# Altium schematic symbol library MCU.SchLib: 4 symbols
Pins are listed as number, name and electrical type; pins without a type are passive.

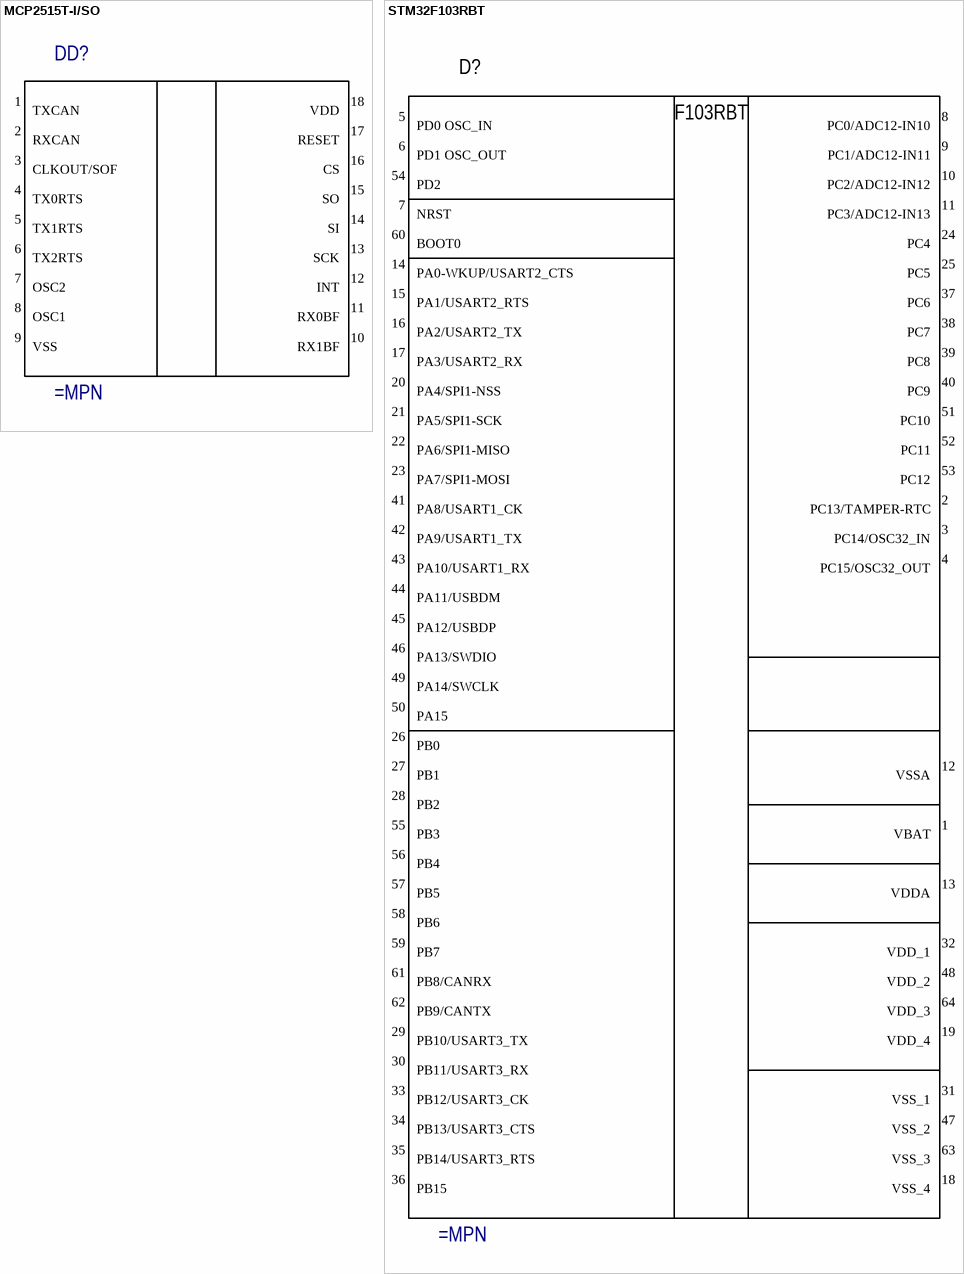
[diagram p0: symbols MCP2515T-I/SO to STM32F103RBT]

## MCP2515T-I/SO
designator DD?
pins: 1 TXCAN, 2 RXCAN, 3 CLKOUT/SOF, 4 TX0RTS, 5 TX1RTS, 6 TX2RTS, 7 OSC2, 8 OSC1, 9 VSS, 10 RX1BF, 11 RX0BF, 12 INT, 13 SCK, 14 SI, 15 SO, 16 CS, 17 RESET, 18 VDD

## STM32F103RBT
designator D?
pins: 1 VBAT, 2 PC13/TAMPER-RTC, 3 PC14/OSC32_IN, 4 PC15/OSC32_OUT, 5 PD0 OSC_IN, 6 PD1 OSC_OUT, 7 NRST, 8 PC0/ADC12-IN10, 9 PC1/ADC12-IN11, 10 PC2/ADC12-IN12, 11 PC3/ADC12-IN13, 12 VSSA, 13 VDDA, 14 PA0-WKUP/USART2_CTS, 15 PA1/USART2_RTS, 16 PA2/USART2_TX, 17 PA3/USART2_RX, 18 VSS_4, 19 VDD_4, 20 PA4/SPI1-NSS, 21 PA5/SPI1-SCK, 22 PA6/SPI1-MISO, 23 PA7/SPI1-MOSI, 24 PC4, 25 PC5, 26 PB0, 27 PB1, 28 PB2, 29 PB10/USART3_TX, 30 PB11/USART3_RX, 31 VSS_1, 32 VDD_1, 33 PB12/USART3_CK, 34 PB13/USART3_CTS, 35 PB14/USART3_RTS, 36 PB15, 37 PC6, 38 PC7, 39 PC8, 40 PC9, 41 PA8/USART1_CK, 42 PA9/USART1_TX, 43 PA10/USART1_RX, 44 PA11/USBDM, 45 PA12/USBDP, 46 PA13/SWDIO, 47 VSS_2, 48 VDD_2, 49 PA14/SWCLK, 50 PA15, 51 PC10, 52 PC11, 53 PC12, 54 PD2, 55 PB3, 56 PB4, 57 PB5, 58 PB6, 59 PB7, 60 BOOT0, 61 PB8/CANRX, 62 PB9/CANTX, 63 VSS_3, 64 VDD_3
text: F103RBT

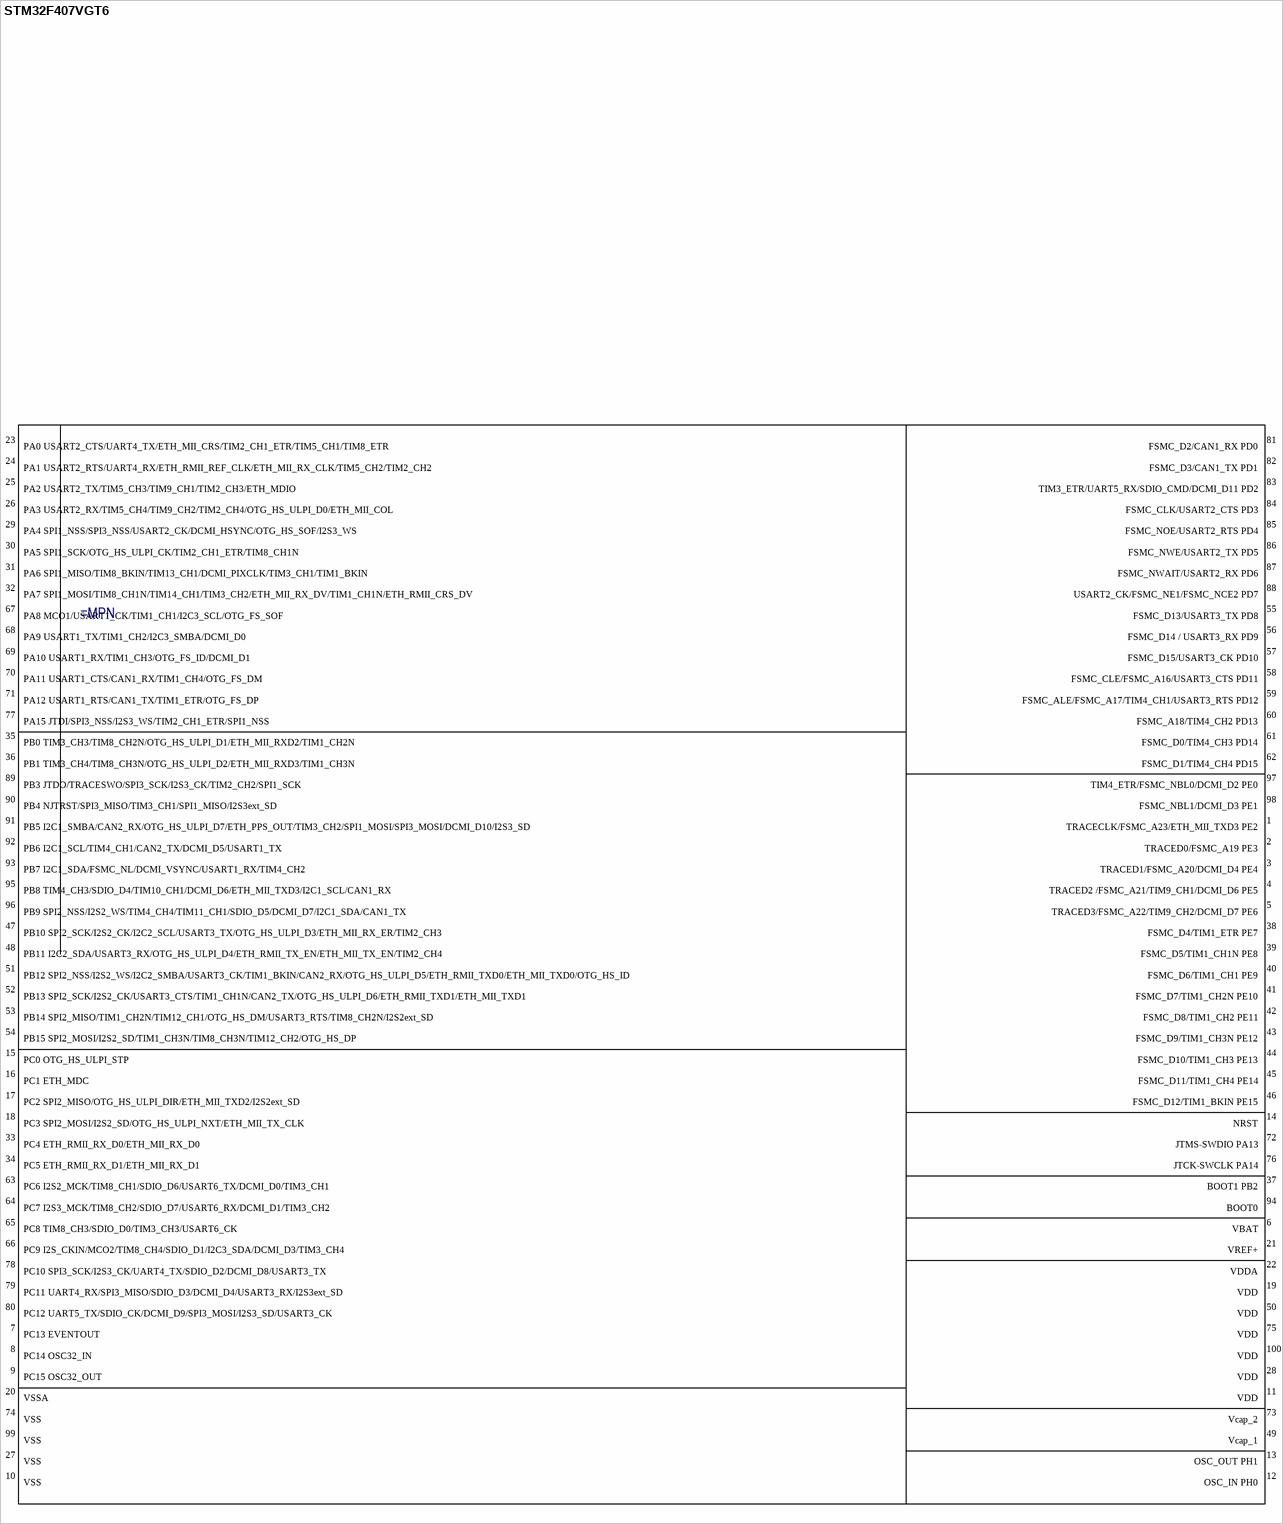
[diagram p1: symbol STM32F407VGT6]

## STM32F407VGT6
designator ?
ComponentLink1Description: Документация; ComponentLink1Url: C:\DATASHEET\Microcontroller\STM32F407VGT6.pdf
pins: 1 TRACECLK/FSMC_A23/ETH_MII_TXD3 PE2 "TRACECLK/ FSMC_A23 / ETH_MII_TXD3 / EVENTOUT", 2 TRACED0/FSMC_A19 PE3 "TRACED0/FSMC_A19/EVENTOUT", 3 TRACED1/FSMC_A20/DCMI_D4 PE4 "TRACED1/FSMC_A20 /  DCMI_D4/ EVENTOUT", 4 TRACED2 /FSMC_A21/TIM9_CH1/DCMI_D6 PE5 "TRACED2 / FSMC_A21 /  TIM9_CH1 / DCMI_D6 / EVENTOUT", 5 TRACED3/FSMC_A22/TIM9_CH2/DCMI_D7 PE6 "TRACED3 / FSMC_A22 /  TIM9_CH2 / DCMI_D7 / EVENTOUT", 6 VBAT, 7 PC13 EVENTOUT "EVENTOUT", 8 PC14 OSC32_IN "OSC32_IN", 9 PC15 OSC32_OUT "OSC32_OUT", 10 VSS, 11 VDD, 12 OSC_IN PH0 "OSC_IN", 13 OSC_OUT PH1 "OSC_OUT", 14 NRST, 15 PC0 OTG_HS_ULPI_STP "PC0 ADC12_IN10", 16 PC1 ETH_MDC "ETH_MDC", 17 PC2 SPI2_MISO/OTG_HS_ULPI_DIR/ETH_MII_TXD2/I2S2ext_SD "SPI2_MISO/OTG_HS_ULPI_DIR/ETH_MII_TXD2/I2S2ext_SD", 18 PC3 SPI2_MOSI/I2S2_SD/OTG_HS_ULPI_NXT/ETH_MII_TX_CLK "SPI2_MOSI / I2S2_SD /  OTG_HS_ULPI_NXT /  ETH_MII_TX_CLK", 19 VDD, 20 VSSA, 21 VREF+, 22 VDDA, 23 PA0 USART2_CTS/UART4_TX/ETH_MII_CRS/TIM2_CH1_ETR/TIM5_CH1/TIM8_ETR "USART2_CTS/  UART4_TX/  ETH_MII_CRS /  TIM2_CH1_ETR/  TIM5_CH1 / TIM8_ETR", 24 PA1 USART2_RTS/UART4_RX/ETH_RMII_REF_CLK/ETH_MII_RX_CLK/TIM5_CH2/TIM2_CH2 "USART2_RTS/UART4_RX/ETH_RMII_REF_CLK/ETH_MII_RX_CLK/TIM5_CH2/TIM2_CH2", 25 PA2 USART2_TX/TIM5_CH3/TIM9_CH1/TIM2_CH3/ETH_MDIO "USART2_TX/TIM5_CH3/TIM9_CH1/TIM2_CH3/ETH_MDIO", 26 PA3 USART2_RX/TIM5_CH4/TIM9_CH2/TIM2_CH4/OTG_HS_ULPI_D0/ETH_MII_COL "USART2_RX/TIM5_CH4/TIM9_CH2/TIM2_CH4/OTG_HS_ULPI_D0/ETH_MII_COL", 27 VSS, 28 VDD, 29 PA4 SPI1_NSS/SPI3_NSS/USART2_CK/DCMI_HSYNC/OTG_HS_SOF/I2S3_WS "SPI1_NSS/SPI3_NSS/USART2_CK/DCMI_HSYNC/OTG_HS_SOF/I2S3_WS", 30 PA5 SPI1_SCK/OTG_HS_ULPI_CK/TIM2_CH1_ETR/TIM8_CH1N "SPI1_SCK/OTG_HS_ULPI_CK/TIM2_CH1_ETR/TIM8_CH1N", 31 PA6 SPI1_MISO/TIM8_BKIN/TIM13_CH1/DCMI_PIXCLK/TIM3_CH1/TIM1_BKIN "SPI1_MISO/TIM8_BKIN/TIM13_CH1/DCMI_PIXCLK/TIM3_CH1/TIM1_BKIN", 32 PA7 SPI1_MOSI/TIM8_CH1N/TIM14_CH1/TIM3_CH2/ETH_MII_RX_DV/TIM1_CH1N/ETH_RMII_CRS_DV "SPI1_MOSI/TIM8_CH1N/TIM14_CH1/TIM3_CH2/ETH_MII_RX_DV/TIM1_CH1N/ETH_RMII_CRS_DV", 33 PC4 ETH_RMII_RX_D0/ETH_MII_RX_D0 "ETH_RMII_RX_D0/ETH_MII_RX_D0", 34 PC5 ETH_RMII_RX_D1/ETH_MII_RX_D1 "ETH_RMII_RX_D1/ETH_MII_RX_D1", 35 PB0 TIM3_CH3/TIM8_CH2N/OTG_HS_ULPI_D1/ETH_MII_RXD2/TIM1_CH2N "TIM3_CH3/TIM8_CH2N/OTG_HS_ULPI_D1/ETH_MII_RXD2/TIM1_CH2N", 36 PB1 TIM3_CH4/TIM8_CH3N/OTG_HS_ULPI_D2/ETH_MII_RXD3/TIM1_CH3N "TIM3_CH4/TIM8_CH3N/OTG_HS_ULPI_D2/ETH_MII_RXD3/TIM1_CH3N", 37 BOOT1 PB2 "PB2 BOOT1", 38 FSMC_D4/TIM1_ETR PE7 "FSMC_D4/TIM1_ETR", 39 FSMC_D5/TIM1_CH1N PE8 "FSMC_D5/TIM1_CH1N", 40 FSMC_D6/TIM1_CH1 PE9 "FSMC_D6/TIM1_CH1", 41 FSMC_D7/TIM1_CH2N PE10 "FSMC_D7/TIM1_CH2N", 42 FSMC_D8/TIM1_CH2 PE11 "FSMC_D8/TIM1_CH2", 43 FSMC_D9/TIM1_CH3N PE12 "FSMC_D9/TIM1_CH3N", 44 FSMC_D10/TIM1_CH3 PE13 "FSMC_D10/TIM1_CH3", 45 FSMC_D11/TIM1_CH4 PE14 "FSMC_D11/TIM1_CH4", 46 FSMC_D12/TIM1_BKIN PE15 "FSMC_D12/TIM1_BKIN", 47 PB10 SPI2_SCK/I2S2_CK/I2C2_SCL/USART3_TX/OTG_HS_ULPI_D3/ETH_MII_RX_ER/TIM2_CH3 "SPI2_SCK/I2S2_CK/I2C2_SCL/USART3_TX/OTG_HS_ULPI_D3/ETH_MII_RX_ER/TIM2_CH3", 48 PB11 I2C2_SDA/USART3_RX/OTG_HS_ULPI_D4/ETH_RMII_TX_EN/ETH_MII_TX_EN/TIM2_CH4 "I2C2_SDA/USART3_RX/OTG_HS_ULPI_D4/ETH_RMII_TX_EN/ETH_MII_TX_EN/TIM2_CH4", 49 Vcap_1, 50 VDD, 51 PB12 SPI2_NSS/I2S2_WS/I2C2_SMBA/USART3_CK/TIM1_BKIN/CAN2_RX/OTG_HS_ULPI_D5/ETH_RMII_TXD0/ETH_MII_TXD0/OTG_HS_ID "SPI2_NSS/I2S2_WS/I2C2_SMBA/USART3_CK/TIM1_BKIN/CAN2_RX/OTG_HS_ULPI_D5/ETH_RMII_TXD0/ETH_MII_TXD0/OTG_HS_ID", 52 PB13 SPI2_SCK/I2S2_CK/USART3_CTS/TIM1_CH1N/CAN2_TX/OTG_HS_ULPI_D6/ETH_RMII_TXD1/ETH_MII_TXD1 "SPI2_SCK/I2S2_CK/USART3_CTS/TIM1_CH1N/CAN2_TX/OTG_HS_ULPI_D6/ETH_RMII_TXD1/ETH_MII_TXD1", 53 PB14 SPI2_MISO/TIM1_CH2N/TIM12_CH1/OTG_HS_DM/USART3_RTS/TIM8_CH2N/I2S2ext_SD "SPI2_MISO/TIM1_CH2N/TIM12_CH1/OTG_HS_DM/USART3_RTS/TIM8_CH2N/I2S2ext_SD", 54 PB15 SPI2_MOSI/I2S2_SD/TIM1_CH3N/TIM8_CH3N/TIM12_CH2/OTG_HS_DP "SPI2_MOSI/I2S2_SD/TIM1_CH3N/TIM8_CH3N/TIM12_CH2/OTG_HS_DP", 55 FSMC_D13/USART3_TX PD8 "FSMC_D13/USART3_TX", 56 FSMC_D14 / USART3_RX PD9 "FSMC_D14/USART3_RX", 57 FSMC_D15/USART3_CK PD10 "FSMC_D15/USART3_CK", 58 FSMC_CLE/FSMC_A16/USART3_CTS PD11 "FSMC_CLE/FSMC_A16/USART3_CTS", 59 FSMC_ALE/FSMC_A17/TIM4_CH1/USART3_RTS PD12 "FSMC_ALE/FSMC_A17/TIM4_CH1/USART3_RTS", 60 FSMC_A18/TIM4_CH2 PD13 "FSMC_A18/TIM4_CH2", 61 FSMC_D0/TIM4_CH3 PD14 "FSMC_D0/TIM4_CH3", 62 FSMC_D1/TIM4_CH4 PD15 "FSMC_D1/TIM4_CH4", 63 PC6 I2S2_MCK/TIM8_CH1/SDIO_D6/USART6_TX/DCMI_D0/TIM3_CH1 "I2S2_MCK/TIM8_CH1/SDIO_D6/USART6_TX/DCMI_D0/TIM3_CH1", 64 PC7 I2S3_MCK/TIM8_CH2/SDIO_D7/USART6_RX/DCMI_D1/TIM3_CH2 "I2S3_MCK/TIM8_CH2/SDIO_D7/USART6_RX/DCMI_D1/TIM3_CH2", 65 PC8 TIM8_CH3/SDIO_D0/TIM3_CH3/USART6_CK "TIM8_CH3/SDIO_D0/TIM3_CH3/USART6_CK", 66 PC9 I2S_CKIN/MCO2/TIM8_CH4/SDIO_D1/I2C3_SDA/DCMI_D3/TIM3_CH4 "I2S_CKIN/MCO2/TIM8_CH4/SDIO_D1/I2C3_SDA/DCMI_D3/TIM3_CH4", 67 PA8 MCO1/USART1_CK/TIM1_CH1/I2C3_SCL/OTG_FS_SOF "MCO1/USART1_CK/TIM1_CH1/I2C3_SCL/OTG_FS_SOF", 68 PA9 USART1_TX/TIM1_CH2/I2C3_SMBA/DCMI_D0 "USART1_TX/TIM1_CH2/I2C3_SMBA/DCMI_D0", 69 PA10 USART1_RX/TIM1_CH3/OTG_FS_ID/DCMI_D1 "USART1_RX/TIM1_CH3/OTG_FS_ID/DCMI_D1", 70 PA11 USART1_CTS/CAN1_RX/TIM1_CH4/OTG_FS_DM "USART1_CTS/CAN1_RX/TIM1_CH4/OTG_FS_DM", 71 PA12 USART1_RTS/CAN1_TX/TIM1_ETR/OTG_FS_DP "USART1_RTS/CAN1_TX/TIM1_ETR/OTG_FS_DP", 72 JTMS-SWDIO PA13 "JTMS-SWDIO", 73 Vcap_2, 74 VSS, 75 VDD, 76 JTCK-SWCLK PA14 "JTCK-SWCLK", 77 PA15 JTDI/SPI3_NSS/I2S3_WS/TIM2_CH1_ETR/SPI1_NSS "JTDI/SPI3_NSS/I2S3_WS/TIM2_CH1_ETR/SPI1_NSS", 78 PC10 SPI3_SCK/I2S3_CK/UART4_TX/SDIO_D2/DCMI_D8/USART3_TX "SPI3_SCK/I2S3_CK/UART4_TX/SDIO_D2/DCMI_D8/USART3_TX", 79 PC11 UART4_RX/SPI3_MISO/SDIO_D3/DCMI_D4/USART3_RX/I2S3ext_SD "UART4_RX/SPI3_MISO/SDIO_D3/DCMI_D4/USART3_RX/I2S3ext_SD", 80 PC12 UART5_TX/SDIO_CK/DCMI_D9/SPI3_MOSI/I2S3_SD/USART3_CK "UART5_TX/SDIO_CK/DCMI_D9/SPI3_MOSI/I2S3_SD/USART3_CK", 81 FSMC_D2/CAN1_RX PD0 "FSMC_D2/CAN1_RX", 82 FSMC_D3/CAN1_TX PD1 "FSMC_D3/CAN1_TX", 83 TIM3_ETR/UART5_RX/SDIO_CMD/DCMI_D11 PD2 "TIM3_ETR/UART5_RX/SDIO_CMD/DCMI_D11", 84 FSMC_CLK/USART2_CTS PD3 "FSMC_CLK/USART2_CTS", 85 FSMC_NOE/USART2_RTS PD4 "FSMC_NOE/USART2_RTS", 86 FSMC_NWE/USART2_TX PD5 "FSMC_NWE/USART2_TX", 87 FSMC_NWAIT/USART2_RX PD6 "FSMC_NWAIT/USART2_RX", 88 USART2_CK/FSMC_NE1/FSMC_NCE2 PD7 "USART2_CK/FSMC_NE1/FSMC_NCE2", 89 PB3 JTDO/TRACESWO/SPI3_SCK/I2S3_CK/TIM2_CH2/SPI1_SCK "JTDO/TRACESWO/SPI3_SCK/I2S3_CK/TIM2_CH2/SPI1_SCK", 90 PB4 NJTRST/SPI3_MISO/TIM3_CH1/SPI1_MISO/I2S3ext_SD "NJTRST/SPI3_MISO/TIM3_CH1/SPI1_MISO/I2S3ext_SD", 91 PB5 I2C1_SMBA/CAN2_RX/OTG_HS_ULPI_D7/ETH_PPS_OUT/TIM3_CH2/SPI1_MOSI/SPI3_MOSI/DCMI_D10/I2S3_SD "I2C1_SMBA/CAN2_RX/OTG_HS_ULPI_D7/ETH_PPS_OUT/TIM3_CH2/SPI1_MOSI/SPI3_MOSI/DCMI_D10/I2S3_SD", 92 PB6 I2C1_SCL/TIM4_CH1/CAN2_TX/DCMI_D5/USART1_TX "I2C1_SCL/TIM4_CH1/CAN2_TX/DCMI_D5/USART1_TX", 93 PB7 I2C1_SDA/FSMC_NL/DCMI_VSYNC/USART1_RX/TIM4_CH2 "I2C1_SDA/FSMC_NL/DCMI_VSYNC/USART1_RX/TIM4_CH2", 94 BOOT0, 95 PB8 TIM4_CH3/SDIO_D4/TIM10_CH1/DCMI_D6/ETH_MII_TXD3/I2C1_SCL/CAN1_RX "TIM4_CH3/SDIO_D4/TIM10_CH1/DCMI_D6/ETH_MII_TXD3/I2C1_SCL/CAN1_RX", 96 PB9 SPI2_NSS/I2S2_WS/TIM4_CH4/TIM11_CH1/SDIO_D5/DCMI_D7/I2C1_SDA/CAN1_TX "SPI2_NSS/I2S2_WS/TIM4_CH4/TIM11_CH1/SDIO_D5/DCMI_D7/I2C1_SDA/CAN1_TX", 97 TIM4_ETR/FSMC_NBL0/DCMI_D2 PE0 "TIM4_ETR/FSMC_NBL0/DCMI_D2", 98 FSMC_NBL1/DCMI_D3 PE1 "FSMC_NBL1/DCMI_D3", 99 VSS, 100 VDD

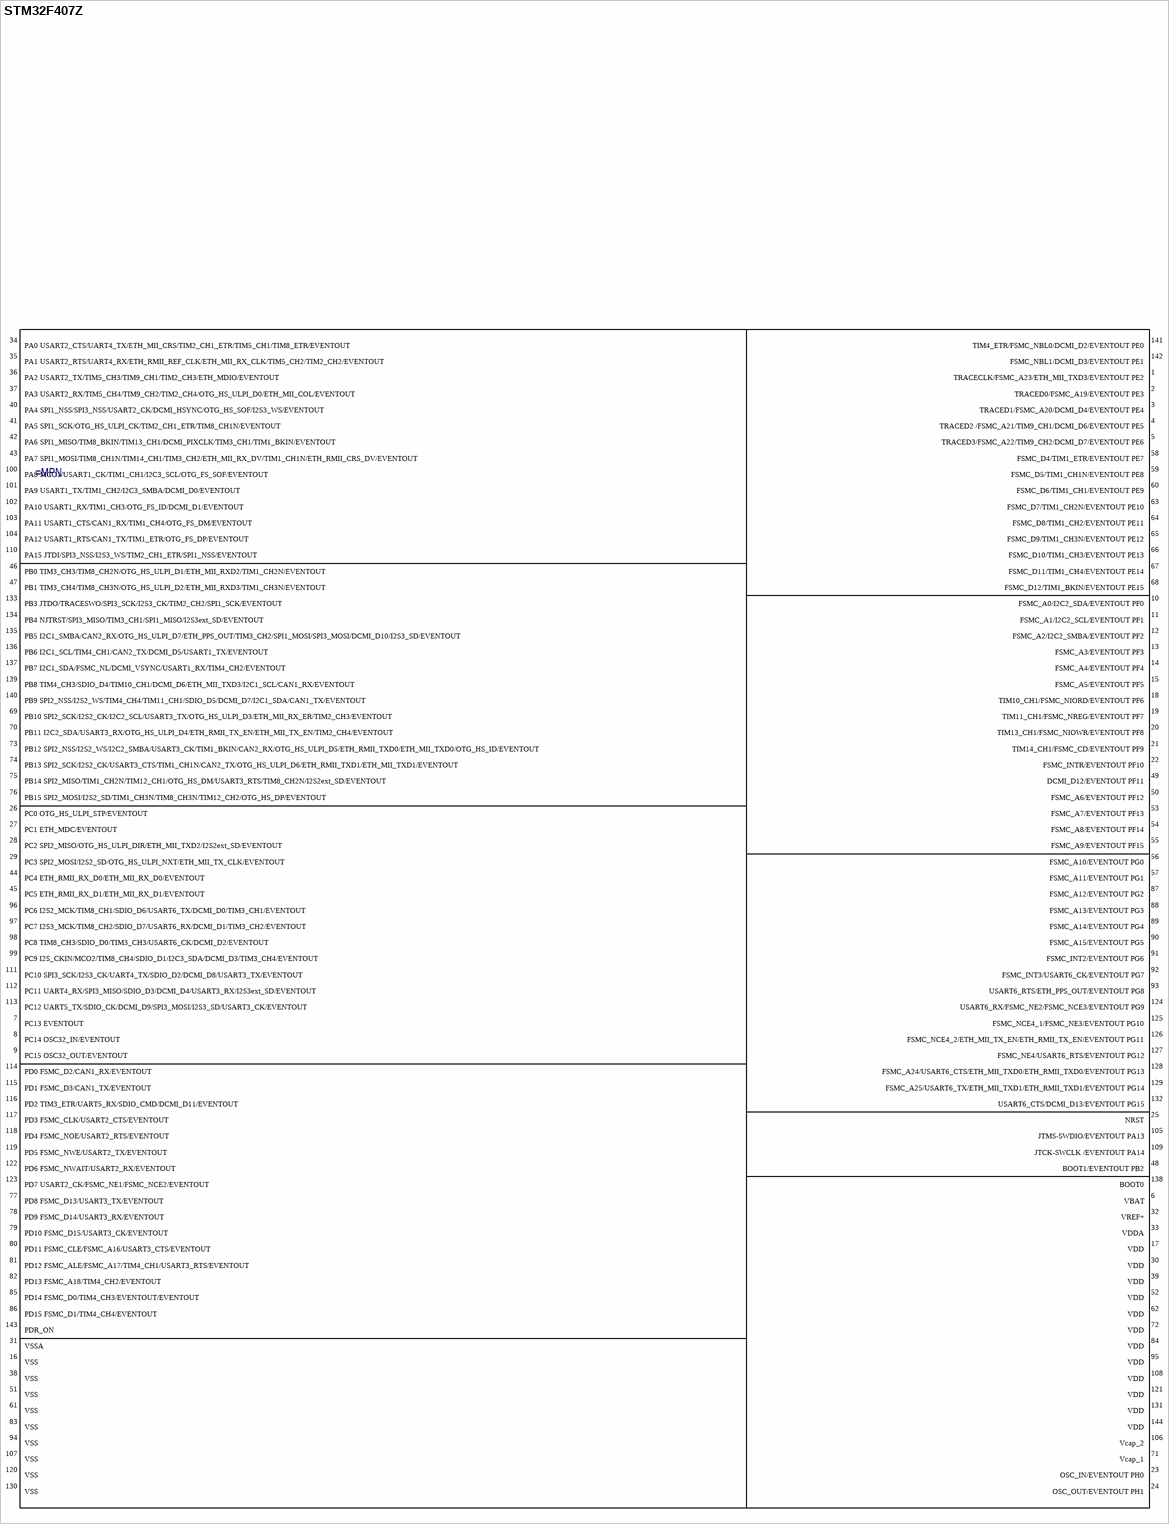
[diagram p2: symbol STM32F407Z]

## STM32F407Z
designator ?
ComponentLink1Description: Документация; ComponentLink1Url: C:\DATASHEET\Microcontroller\STM32F407VGT6.pdf
pins: 1 TRACECLK/FSMC_A23/ETH_MII_TXD3/EVENTOUT PE2 "TRACECLK/ FSMC_A23 / ETH_MII_TXD3 / EVENTOUT", 2 TRACED0/FSMC_A19/EVENTOUT PE3 "TRACED0/FSMC_A19/EVENTOUT", 3 TRACED1/FSMC_A20/DCMI_D4/EVENTOUT PE4 "TRACED1/FSMC_A20 /  DCMI_D4/ EVENTOUT", 4 TRACED2 /FSMC_A21/TIM9_CH1/DCMI_D6/EVENTOUT PE5 "TRACED2 / FSMC_A21 /  TIM9_CH1 / DCMI_D6 / EVENTOUT", 5 TRACED3/FSMC_A22/TIM9_CH2/DCMI_D7/EVENTOUT PE6 "TRACED3 / FSMC_A22 /  TIM9_CH2 / DCMI_D7 / EVENTOUT", 6 VBAT, 7 PC13 EVENTOUT "EVENTOUT", 8 PC14 OSC32_IN/EVENTOUT "OSC32_IN", 9 PC15 OSC32_OUT/EVENTOUT "OSC32_OUT", 10 FSMC_A0/I2C2_SDA/EVENTOUT PF0 "NRST", 11 FSMC_A1/I2C2_SCL/EVENTOUT PF1 "NRST", 12 FSMC_A2/I2C2_SMBA/EVENTOUT PF2 "NRST", 13 FSMC_A3/EVENTOUT PF3 "NRST", 14 FSMC_A4/EVENTOUT PF4 "NRST", 15 FSMC_A5/EVENTOUT PF5 "NRST", 16 VSS, 17 VDD, 18 TIM10_CH1/FSMC_NIORD/EVENTOUT PF6 "NRST", 19 TIM11_CH1/FSMC_NREG/EVENTOUT PF7 "NRST", 20 TIM13_CH1/FSMC_NIOWR/EVENTOUT PF8 "NRST", 21 TIM14_CH1/FSMC_CD/EVENTOUT PF9 "NRST", 22 FSMC_INTR/EVENTOUT PF10 "NRST", 23 OSC_IN/EVENTOUT PH0 "OSC_IN", 24 OSC_OUT/EVENTOUT PH1 "OSC_OUT", 25 NRST, 26 PC0 OTG_HS_ULPI_STP/EVENTOUT "PC0 ADC12_IN10", 27 PC1 ETH_MDC/EVENTOUT "ETH_MDC", 28 PC2 SPI2_MISO/OTG_HS_ULPI_DIR/ETH_MII_TXD2/I2S2ext_SD/EVENTOUT "SPI2_MISO/OTG_HS_ULPI_DIR/ETH_MII_TXD2/I2S2ext_SD", 29 PC3 SPI2_MOSI/I2S2_SD/OTG_HS_ULPI_NXT/ETH_MII_TX_CLK/EVENTOUT "SPI2_MOSI / I2S2_SD /  OTG_HS_ULPI_NXT /  ETH_MII_TX_CLK", 30 VDD, 31 VSSA, 32 VREF+, 33 VDDA, 34 PA0 USART2_CTS/UART4_TX/ETH_MII_CRS/TIM2_CH1_ETR/TIM5_CH1/TIM8_ETR/EVENTOUT "USART2_CTS/  UART4_TX/  ETH_MII_CRS /  TIM2_CH1_ETR/  TIM5_CH1 / TIM8_ETR/EVENTOUT", 35 PA1 USART2_RTS/UART4_RX/ETH_RMII_REF_CLK/ETH_MII_RX_CLK/TIM5_CH2/TIM2_CH2/EVENTOUT "USART2_RTS/UART4_RX/ETH_RMII_REF_CLK/ETH_MII_RX_CLK/TIM5_CH2/TIM2_CH2", 36 PA2 USART2_TX/TIM5_CH3/TIM9_CH1/TIM2_CH3/ETH_MDIO/EVENTOUT "USART2_TX/TIM5_CH3/TIM9_CH1/TIM2_CH3/ETH_MDIO", 37 PA3 USART2_RX/TIM5_CH4/TIM9_CH2/TIM2_CH4/OTG_HS_ULPI_D0/ETH_MII_COL/EVENTOUT "USART2_RX/TIM5_CH4/TIM9_CH2/TIM2_CH4/OTG_HS_ULPI_D0/ETH_MII_COL", 38 VSS, 39 VDD, 40 PA4 SPI1_NSS/SPI3_NSS/USART2_CK/DCMI_HSYNC/OTG_HS_SOF/I2S3_WS/EVENTOUT "SPI1_NSS/SPI3_NSS/USART2_CK/DCMI_HSYNC/OTG_HS_SOF/I2S3_WS", 41 PA5 SPI1_SCK/OTG_HS_ULPI_CK/TIM2_CH1_ETR/TIM8_CH1N/EVENTOUT "SPI1_SCK/OTG_HS_ULPI_CK/TIM2_CH1_ETR/TIM8_CH1N", 42 PA6 SPI1_MISO/TIM8_BKIN/TIM13_CH1/DCMI_PIXCLK/TIM3_CH1/TIM1_BKIN/EVENTOUT "SPI1_MISO/TIM8_BKIN/TIM13_CH1/DCMI_PIXCLK/TIM3_CH1/TIM1_BKIN", 43 PA7 SPI1_MOSI/TIM8_CH1N/TIM14_CH1/TIM3_CH2/ETH_MII_RX_DV/TIM1_CH1N/ETH_RMII_CRS_DV/EVENTOUT "SPI1_MOSI/TIM8_CH1N/TIM14_CH1/TIM3_CH2/ETH_MII_RX_DV/TIM1_CH1N/ETH_RMII_CRS_DV", 44 PC4 ETH_RMII_RX_D0/ETH_MII_RX_D0/EVENTOUT "ETH_RMII_RX_D0/ETH_MII_RX_D0", 45 PC5 ETH_RMII_RX_D1/ETH_MII_RX_D1/EVENTOUT "ETH_RMII_RX_D1/ETH_MII_RX_D1", 46 PB0 TIM3_CH3/TIM8_CH2N/OTG_HS_ULPI_D1/ETH_MII_RXD2/TIM1_CH2N/EVENTOUT "TIM3_CH3/TIM8_CH2N/OTG_HS_ULPI_D1/ETH_MII_RXD2/TIM1_CH2N", 47 PB1 TIM3_CH4/TIM8_CH3N/OTG_HS_ULPI_D2/ETH_MII_RXD3/TIM1_CH3N/EVENTOUT "TIM3_CH4/TIM8_CH3N/OTG_HS_ULPI_D2/ETH_MII_RXD3/TIM1_CH3N", 48 BOOT1/EVENTOUT PB2 "PB2 BOOT1", 49 DCMI_D12/EVENTOUT PF11 "NRST", 50 FSMC_A6/EVENTOUT PF12 "NRST", 51 VSS, 52 VDD, 53 FSMC_A7/EVENTOUT PF13 "NRST", 54 FSMC_A8/EVENTOUT PF14 "NRST", 55 FSMC_A9/EVENTOUT PF15 "NRST", 56 FSMC_A10/EVENTOUT PG0 "NRST", 57 FSMC_A11/EVENTOUT PG1 "NRST", 58 FSMC_D4/TIM1_ETR/EVENTOUT PE7 "FSMC_D4/TIM1_ETR", 59 FSMC_D5/TIM1_CH1N/EVENTOUT PE8 "FSMC_D5/TIM1_CH1N", 60 FSMC_D6/TIM1_CH1/EVENTOUT PE9 "FSMC_D6/TIM1_CH1", 61 VSS, 62 VDD, 63 FSMC_D7/TIM1_CH2N/EVENTOUT PE10 "FSMC_D7/TIM1_CH2N", 64 FSMC_D8/TIM1_CH2/EVENTOUT PE11 "FSMC_D8/TIM1_CH2", 65 FSMC_D9/TIM1_CH3N/EVENTOUT PE12 "FSMC_D9/TIM1_CH3N", 66 FSMC_D10/TIM1_CH3/EVENTOUT PE13 "FSMC_D10/TIM1_CH3", 67 FSMC_D11/TIM1_CH4/EVENTOUT PE14 "FSMC_D11/TIM1_CH4", 68 FSMC_D12/TIM1_BKIN/EVENTOUT PE15 "FSMC_D12/TIM1_BKIN", 69 PB10 SPI2_SCK/I2S2_CK/I2C2_SCL/USART3_TX/OTG_HS_ULPI_D3/ETH_MII_RX_ER/TIM2_CH3/EVENTOUT "SPI2_SCK/I2S2_CK/I2C2_SCL/USART3_TX/OTG_HS_ULPI_D3/ETH_MII_RX_ER/TIM2_CH3", 70 PB11 I2C2_SDA/USART3_RX/OTG_HS_ULPI_D4/ETH_RMII_TX_EN/ETH_MII_TX_EN/TIM2_CH4/EVENTOUT "I2C2_SDA/USART3_RX/OTG_HS_ULPI_D4/ETH_RMII_TX_EN/ETH_MII_TX_EN/TIM2_CH4", 71 Vcap_1, 72 VDD, 73 PB12 SPI2_NSS/I2S2_WS/I2C2_SMBA/USART3_CK/TIM1_BKIN/CAN2_RX/OTG_HS_ULPI_D5/ETH_RMII_TXD0/ETH_MII_TXD0/OTG_HS_ID/EVENTOUT "SPI2_NSS/I2S2_WS/I2C2_SMBA/USART3_CK/TIM1_BKIN/CAN2_RX/OTG_HS_ULPI_D5/ETH_RMII_TXD0/ETH_MII_TXD0/OTG_HS_ID", 74 PB13 SPI2_SCK/I2S2_CK/USART3_CTS/TIM1_CH1N/CAN2_TX/OTG_HS_ULPI_D6/ETH_RMII_TXD1/ETH_MII_TXD1/EVENTOUT "SPI2_SCK/I2S2_CK/USART3_CTS/TIM1_CH1N/CAN2_TX/OTG_HS_ULPI_D6/ETH_RMII_TXD1/ETH_MII_TXD1", 75 PB14 SPI2_MISO/TIM1_CH2N/TIM12_CH1/OTG_HS_DM/USART3_RTS/TIM8_CH2N/I2S2ext_SD/EVENTOUT "SPI2_MISO/TIM1_CH2N/TIM12_CH1/OTG_HS_DM/USART3_RTS/TIM8_CH2N/I2S2ext_SD", 76 PB15 SPI2_MOSI/I2S2_SD/TIM1_CH3N/TIM8_CH3N/TIM12_CH2/OTG_HS_DP/EVENTOUT "SPI2_MOSI/I2S2_SD/TIM1_CH3N/TIM8_CH3N/TIM12_CH2/OTG_HS_DP", 77 PD8 FSMC_D13/USART3_TX/EVENTOUT "FSMC_D13/USART3_TX", 78 PD9 FSMC_D14/USART3_RX/EVENTOUT "FSMC_D14/USART3_RX", 79 PD10 FSMC_D15/USART3_CK/EVENTOUT "FSMC_D15/USART3_CK", 80 PD11 FSMC_CLE/FSMC_A16/USART3_CTS/EVENTOUT "FSMC_CLE/FSMC_A16/USART3_CTS", 81 PD12 FSMC_ALE/FSMC_A17/TIM4_CH1/USART3_RTS/EVENTOUT "FSMC_ALE/FSMC_A17/TIM4_CH1/USART3_RTS", 82 PD13 FSMC_A18/TIM4_CH2/EVENTOUT "FSMC_A18/TIM4_CH2", 83 VSS, 84 VDD, 85 PD14 FSMC_D0/TIM4_CH3/EVENTOUT/EVENTOUT "FSMC_D0/TIM4_CH3", 86 PD15 FSMC_D1/TIM4_CH4/EVENTOUT "FSMC_D1/TIM4_CH4", 87 FSMC_A12/EVENTOUT PG2 "NRST", 88 FSMC_A13/EVENTOUT PG3 "NRST", 89 FSMC_A14/EVENTOUT PG4 "NRST", 90 FSMC_A15/EVENTOUT PG5 "NRST", 91 FSMC_INT2/EVENTOUT PG6 "NRST", 92 FSMC_INT3/USART6_CK/EVENTOUT PG7 "NRST", 93 USART6_RTS/ETH_PPS_OUT/EVENTOUT PG8 "NRST", 94 VSS, 95 VDD, 96 PC6 I2S2_MCK/TIM8_CH1/SDIO_D6/USART6_TX/DCMI_D0/TIM3_CH1/EVENTOUT "I2S2_MCK/TIM8_CH1/SDIO_D6/USART6_TX/DCMI_D0/TIM3_CH1", 97 PC7 I2S3_MCK/TIM8_CH2/SDIO_D7/USART6_RX/DCMI_D1/TIM3_CH2/EVENTOUT "I2S3_MCK/TIM8_CH2/SDIO_D7/USART6_RX/DCMI_D1/TIM3_CH2", 98 PC8 TIM8_CH3/SDIO_D0/TIM3_CH3/USART6_CK/DCMI_D2/EVENTOUT "TIM8_CH3/SDIO_D0/TIM3_CH3/USART6_CK", 99 PC9 I2S_CKIN/MCO2/TIM8_CH4/SDIO_D1/I2C3_SDA/DCMI_D3/TIM3_CH4/EVENTOUT "I2S_CKIN/MCO2/TIM8_CH4/SDIO_D1/I2C3_SDA/DCMI_D3/TIM3_CH4", 100 PA8 MCO1/USART1_CK/TIM1_CH1/I2C3_SCL/OTG_FS_SOF/EVENTOUT "MCO1/USART1_CK/TIM1_CH1/I2C3_SCL/OTG_FS_SOF", 101 PA9 USART1_TX/TIM1_CH2/I2C3_SMBA/DCMI_D0/EVENTOUT "USART1_TX/TIM1_CH2/I2C3_SMBA/DCMI_D0", 102 PA10 USART1_RX/TIM1_CH3/OTG_FS_ID/DCMI_D1/EVENTOUT "USART1_RX/TIM1_CH3/OTG_FS_ID/DCMI_D1", 103 PA11 USART1_CTS/CAN1_RX/TIM1_CH4/OTG_FS_DM/EVENTOUT "USART1_CTS/CAN1_RX/TIM1_CH4/OTG_FS_DM", 104 PA12 USART1_RTS/CAN1_TX/TIM1_ETR/OTG_FS_DP/EVENTOUT "USART1_RTS/CAN1_TX/TIM1_ETR/OTG_FS_DP", 105 JTMS-SWDIO/EVENTOUT PA13 "JTMS-SWDIO", 106 Vcap_2, 107 VSS, 108 VDD, 109 JTCK-SWCLK /EVENTOUT PA14 "JTCK-SWCLK", 110 PA15 JTDI/SPI3_NSS/I2S3_WS/TIM2_CH1_ETR/SPI1_NSS/EVENTOUT "JTDI/SPI3_NSS/I2S3_WS/TIM2_CH1_ETR/SPI1_NSS", 111 PC10 SPI3_SCK/I2S3_CK/UART4_TX/SDIO_D2/DCMI_D8/USART3_TX/EVENTOUT "SPI3_SCK/I2S3_CK/UART4_TX/SDIO_D2/DCMI_D8/USART3_TX", 112 PC11 UART4_RX/SPI3_MISO/SDIO_D3/DCMI_D4/USART3_RX/I2S3ext_SD/EVENTOUT "UART4_RX/SPI3_MISO/SDIO_D3/DCMI_D4/USART3_RX/I2S3ext_SD", 113 PC12 UART5_TX/SDIO_CK/DCMI_D9/SPI3_MOSI/I2S3_SD/USART3_CK/EVENTOUT "UART5_TX/SDIO_CK/DCMI_D9/SPI3_MOSI/I2S3_SD/USART3_CK", 114 PD0 FSMC_D2/CAN1_RX/EVENTOUT "FSMC_D2/CAN1_RX", 115 PD1 FSMC_D3/CAN1_TX/EVENTOUT "FSMC_D3/CAN1_TX", 116 PD2 TIM3_ETR/UART5_RX/SDIO_CMD/DCMI_D11/EVENTOUT "TIM3_ETR/UART5_RX/SDIO_CMD/DCMI_D11", 117 PD3 FSMC_CLK/USART2_CTS/EVENTOUT "FSMC_CLK/USART2_CTS", 118 PD4 FSMC_NOE/USART2_RTS/EVENTOUT "FSMC_NOE/USART2_RTS", 119 PD5 FSMC_NWE/USART2_TX/EVENTOUT "FSMC_NWE/USART2_TX", 120 VSS, 121 VDD, 122 PD6 FSMC_NWAIT/USART2_RX/EVENTOUT "FSMC_NWAIT/USART2_RX", 123 PD7 USART2_CK/FSMC_NE1/FSMC_NCE2/EVENTOUT "USART2_CK/FSMC_NE1/FSMC_NCE2", 124 USART6_RX/FSMC_NE2/FSMC_NCE3/EVENTOUT PG9 "NRST", 125 FSMC_NCE4_1/FSMC_NE3/EVENTOUT PG10 "NRST", 126 FSMC_NCE4_2/ETH_MII_TX_EN/ETH_RMII_TX_EN/EVENTOUT PG11 "NRST", 127 FSMC_NE4/USART6_RTS/EVENTOUT PG12 "NRST", 128 FSMC_A24/USART6_CTS/ETH_MII_TXD0/ETH_RMII_TXD0/EVENTOUT PG13 "NRST", 129 FSMC_A25/USART6_TX/ETH_MII_TXD1/ETH_RMII_TXD1/EVENTOUT PG14 "NRST", 130 VSS, 131 VDD, 132 USART6_CTS/DCMI_D13/EVENTOUT PG15 "NRST", 133 PB3 JTDO/TRACESWO/SPI3_SCK/I2S3_CK/TIM2_CH2/SPI1_SCK/EVENTOUT "JTDO/TRACESWO/SPI3_SCK/I2S3_CK/TIM2_CH2/SPI1_SCK", 134 PB4 NJTRST/SPI3_MISO/TIM3_CH1/SPI1_MISO/I2S3ext_SD/EVENTOUT "NJTRST/SPI3_MISO/TIM3_CH1/SPI1_MISO/I2S3ext_SD", 135 PB5 I2C1_SMBA/CAN2_RX/OTG_HS_ULPI_D7/ETH_PPS_OUT/TIM3_CH2/SPI1_MOSI/SPI3_MOSI/DCMI_D10/I2S3_SD/EVENTOUT "I2C1_SMBA/CAN2_RX/OTG_HS_ULPI_D7/ETH_PPS_OUT/TIM3_CH2/SPI1_MOSI/SPI3_MOSI/DCMI_D10/I2S3_SD", 136 PB6 I2C1_SCL/TIM4_CH1/CAN2_TX/DCMI_D5/USART1_TX/EVENTOUT "I2C1_SCL/TIM4_CH1/CAN2_TX/DCMI_D5/USART1_TX", 137 PB7 I2C1_SDA/FSMC_NL/DCMI_VSYNC/USART1_RX/TIM4_CH2/EVENTOUT "I2C1_SDA/FSMC_NL/DCMI_VSYNC/USART1_RX/TIM4_CH2", 138 BOOT0, 139 PB8 TIM4_CH3/SDIO_D4/TIM10_CH1/DCMI_D6/ETH_MII_TXD3/I2C1_SCL/CAN1_RX/EVENTOUT "TIM4_CH3/SDIO_D4/TIM10_CH1/DCMI_D6/ETH_MII_TXD3/I2C1_SCL/CAN1_RX", 140 PB9 SPI2_NSS/I2S2_WS/TIM4_CH4/TIM11_CH1/SDIO_D5/DCMI_D7/I2C1_SDA/CAN1_TX/EVENTOUT "SPI2_NSS/I2S2_WS/TIM4_CH4/TIM11_CH1/SDIO_D5/DCMI_D7/I2C1_SDA/CAN1_TX", 141 TIM4_ETR/FSMC_NBL0/DCMI_D2/EVENTOUT PE0 "TIM4_ETR/FSMC_NBL0/DCMI_D2", 142 FSMC_NBL1/DCMI_D3/EVENTOUT PE1 "FSMC_NBL1/DCMI_D3", 143 PDR_ON "VDD", 144 VDD